# Altium schematic symbol library AD5292BRUZ.SchLib: 1 symbol
Pins are listed as number, name and electrical type; pins without a type are passive.

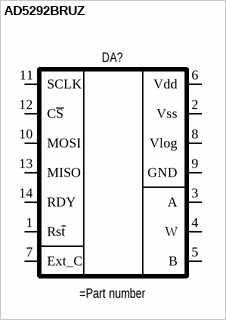
[diagram p0: symbol AD5292BRUZ]

## AD5292BRUZ
designator DA?
1024-Position, Digital Potentiometers with Maximum ±1% R-Tolerance Error and 20-TP Memory
pins: 1 Rs~{t}, 2 Vss, 3 A, 4 W, 5 B, 6 Vdd, 7 Ext_C, 8 Vlog (power), 9 GND (power), 10 MOSI (power), 11 SCLK (power), 12 C~{S}, 13 MISO (power), 14 RDY